# EAGLE library part TD-136-T-A (library SAMTEC-Txx_By_element14_Batch_1)
CONN RECEPTACLE, 2.54MM, THT VERT, 72WAY
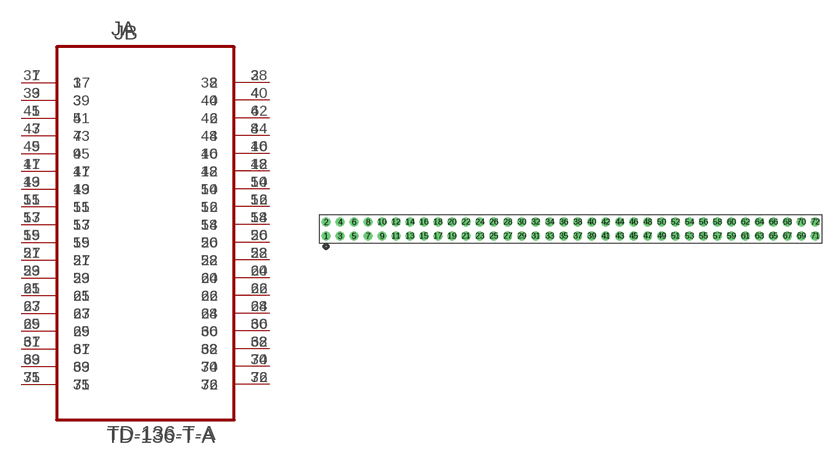
[diagram p126: symbol with the pads of SAMTEC_TD-136-T-A; footprint SAMTEC_TD-136-T-A]

Designator prefix J; gates A=TD-136-T-A_A B=TD-136-T-A_B

## TD-136-T-A (MPN: TD-136-T-A; OC_FARNELL: 2020296; OC_NEWARK: -; PACKAGE: RECEPTACLE, 2.54MM, THT VERT, 72WAY; SUPPLIER: SAMTEC)  [SAMTEC_TD-136-T-A]
1  A:1  pas
2  A:2  pas
3  A:3  pas
4  A:4  pas
5  A:5  pas
6  A:6  pas
7  A:7  pas
8  A:8  pas
9  A:9  pas
10  A:10  pas
11  A:11  pas
12  A:12  pas
13  A:13  pas
14  A:14  pas
15  A:15  pas
16  A:16  pas
17  A:17  pas
18  A:18  pas
19  A:19  pas
20  A:20  pas
21  A:21  pas
22  A:22  pas
23  A:23  pas
24  A:24  pas
25  A:25  pas
26  A:26  pas
27  A:27  pas
28  A:28  pas
29  A:29  pas
30  A:30  pas
31  A:31  pas
32  A:32  pas
33  A:33  pas
34  A:34  pas
35  A:35  pas
36  A:36  pas
37  B:37  pas
38  B:38  pas
39  B:39  pas
40  B:40  pas
41  B:41  pas
42  B:42  pas
43  B:43  pas
44  B:44  pas
45  B:45  pas
46  B:46  pas
47  B:47  pas
48  B:48  pas
49  B:49  pas
50  B:50  pas
51  B:51  pas
52  B:52  pas
53  B:53  pas
54  B:54  pas
55  B:55  pas
56  B:56  pas
57  B:57  pas
58  B:58  pas
59  B:59  pas
60  B:60  pas
61  B:61  pas
62  B:62  pas
63  B:63  pas
64  B:64  pas
65  B:65  pas
66  B:66  pas
67  B:67  pas
68  B:68  pas
69  B:69  pas
70  B:70  pas
71  B:71  pas
72  B:72  pas

## Footprint SAMTEC_TD-136-T-A (pad centres in mm)
drill 1.067: 1 -88.9,-2.54; 2 -88.9,0; 3 -86.36,-2.54; 4 -86.36,0; 5 -83.82,-2.54; 6 -83.82,0; 7 -81.28,-2.54; 8 -81.28,0; 9 -78.74,-2.54; 10 -78.74,0; 11 -76.2,-2.54; 12 -76.2,0; 13 -73.66,-2.54; 14 -73.66,0; 15 -71.12,-2.54; 16 -71.12,0; 17 -68.58,-2.54; 18 -68.58,0; 19 -66.04,-2.54; 20 -66.04,0; 21 -63.5,-2.54; 22 -63.5,0; 23 -60.96,-2.54; 24 -60.96,0; 25 -58.42,-2.54; 26 -58.42,0; 27 -55.88,-2.54; 28 -55.88,0; 29 -53.34,-2.54; 30 -53.34,0; 31 -50.8,-2.54; 32 -50.8,0; 33 -48.26,-2.54; 34 -48.26,0; 35 -45.72,-2.54; 36 -45.72,0; 37 -43.18,-2.54; 38 -43.18,0; 39 -40.64,-2.54; 40 -40.64,0; 41 -38.1,-2.54; 42 -38.1,0; 43 -35.56,-2.54; 44 -35.56,0; 45 -33.02,-2.54; 46 -33.02,0; 47 -30.48,-2.54; 48 -30.48,0; 49 -27.94,-2.54; 50 -27.94,0; 51 -25.4,-2.54; 52 -25.4,0; 53 -22.86,-2.54; 54 -22.86,0; 55 -20.32,-2.54; 56 -20.32,0; 57 -17.78,-2.54; 58 -17.78,0; 59 -15.24,-2.54; 60 -15.24,0; 61 -12.7,-2.54; 62 -12.7,0; 63 -10.16,-2.54; 64 -10.16,0; 65 -7.62,-2.54; 66 -7.62,0; 67 -5.08,-2.54; 68 -5.08,0; 69 -2.54,-2.54; 70 -2.54,0; 71 0,-2.54; 72 0,0